# Altium schematic symbol library RES_12.4Kohm_805pkg.SchLib: 1 symbol
Pins are listed as number, name and electrical type; pins without a type are passive.

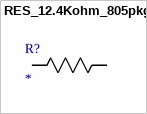
[diagram p0: symbol RES_12.4Kohm_805pkg]

## RES_12.4Kohm_805pkg
designator R?
No Description Available; Mfr_Name: Vishay
footprint RES_CRCW_0805
pins: 1, 2